# Altium footprint library IPEX_20455-040E-76.PcbLib: 1 footprints
Each footprint in its own frame and in the unit in brackets; x right, y up, seen from the top. Pads: shape width x height; smd on the part's side, far side on the other; paste and mask are expansions set on the pad; w line width, h text height; cw(c..) or ccw(c..) is an arc to the next point about the centre after c.
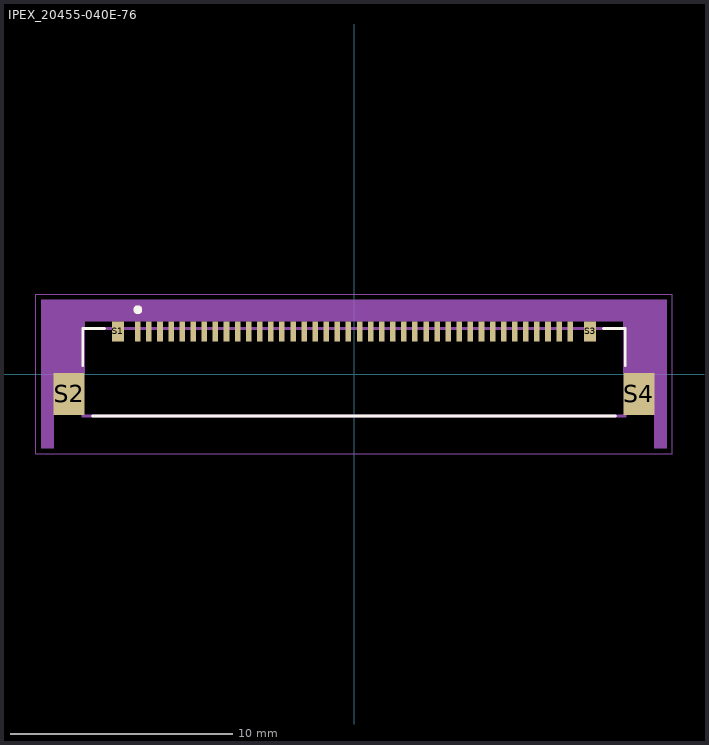
[diagram p0: the footprint, top view; thin cyan lines are the x and y axes]

## IPEX_20455-040E-76 [mm]
pads (44):
  rect 0.25x0.9 smd: 1(-9.75,1.92) 2(-9.25,1.92) 3(-8.75,1.92) 4(-8.25,1.92) 5(-7.75,1.92) 6(-7.25,1.92) 7(-6.75,1.92) 8(-6.25,1.92) 9(-5.75,1.92) 10(-5.25,1.92) 11(-4.75,1.92) 12(-4.25,1.92) 13(-3.75,1.92) 14(-3.25,1.92) 15(-2.75,1.92) 16(-2.25,1.92) 17(-1.75,1.92) 18(-1.25,1.92) 19(-0.75,1.92) 20(-0.25,1.92) 21(0.25,1.92) 22(0.75,1.92) 23(1.25,1.92) 24(1.75,1.92) 25(2.25,1.92) 26(2.75,1.92) 27(3.25,1.92) 28(3.75,1.92) 29(4.25,1.92) 30(4.75,1.92) 31(5.25,1.92) 32(5.75,1.92) 33(6.25,1.92) 34(6.75,1.92) 35(7.25,1.92) 36(7.75,1.92) 37(8.25,1.92) 38(8.75,1.92) 39(9.25,1.92) 40(9.75,1.92)
  rect 0.55x0.9 smd: S1(-10.65,1.92) S3(10.65,1.92)
  rect 1.4x1.9 smd: S2(-12.85,-0.9) S4(12.85,-0.9)
Top Overlay:
  circle w0.2: c-9.75,2.9 r0.1
  lines w0.127: -12.235,0.37 -12.235,2.05 -11.25,2.05 ; -11.8,-1.9 11.8,-1.9 ; 11.25,2.05 12.235,2.05 12.235,0.37
Mechanical 13:
  circle w0.2: c-9.75,2.9 r0.1
  lines w0.127: -12.235,-1.9 12.235,-1.9 12.235,2.05 -12.235,2.05 -12.235,-1.9
Mechanical 15:
  region: 14.1,-3.35 13.55,-3.35 13.55,0.05 12.15,0.05 12.15,2.37 -12.15,2.37 -12.15,0.05 -13.55,0.05 -13.55,-3.35 -14.1,-3.35 -14.1,3.35 14.1,3.35
  lines w0.05: -14.35,-3.6 -14.35,3.6 14.35,3.6 14.35,-3.6 -14.35,-3.6